# Altium schematic symbol library LM4132AMF-41.SchLib: 1 symbol
Pins are listed as number, name and electrical type; pins without a type are passive.

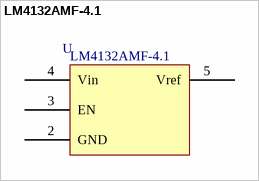
[diagram p0: symbol LM4132AMF-4.1]

## LM4132AMF-4.1
designator U  value LM4132AMF-4.1  (hidden comment: *)
Manufacturer Code: LM4132AMF-4.1/NOPB; Manufacturer: Texas Instruments; Farnell Code: 1673971; Unit Price: 5,74 €
footprint SOT23-5
pins: 2 GND, 3 EN, 4 Vin, 5 Vref